# EAGLE library part SPM_EDRTECH (library edrtech_lib)
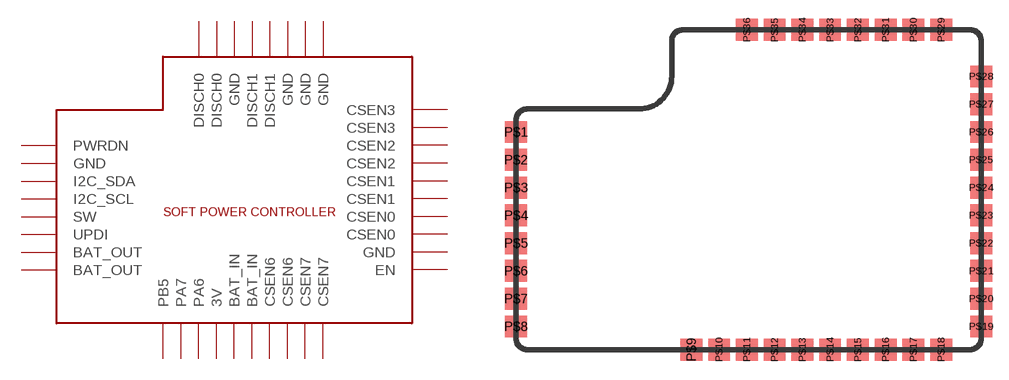
[diagram p32: symbol with the pads of SPM_EDRTECH; footprint SPM_EDRTECH]

Designator prefix -

## SPM_EDRTECH  [SPM_EDRTECH]
P$1  PWRDN
P$2  GND
P$3  I2C_SDA
P$4  I2C_SCL
P$5  SW
P$6  UPDI
P$7  BAT_OUT
P$8  BAT_OUT
P$9  PB5
P$10  PA7
P$11  PA6
P$12  3V
P$13  BAT_IN
P$14  BAT_IN
P$15  CSEN6
P$16  CSEN6
P$17  CSEN7
P$18  CSEN7
P$19  EN
P$20  GND
P$21  CSEN0
P$22  CSEN0
P$23  CSEN1
P$24  CSEN1
P$25  CSEN2
P$26  CSEN2
P$27  CSEN3
P$28  CSEN3
P$29  GND
P$30  GND
P$31  GND
P$32  DISCH1
P$33  DISCH1
P$34  GND
P$35  DISCH0
P$36  DISCH0

## Footprint SPM_EDRTECH (pad centres in mm)
smd 2 x 2: P$1 0,19.89; P$2 0,17.35; P$3 0,14.81; P$4 0,12.27; P$5 0,9.73; P$6 0,7.19; P$7 0,4.65; P$8 0,2.11; P$9 16.03,0; P$10 18.57,0; P$11 21.11,0; P$12 23.65,0; P$13 26.19,0; P$14 28.73,0; P$15 31.27,0; P$16 33.81,0; P$17 36.35,0; P$18 38.89,0; P$19 42.546,2.11; P$20 42.546,4.65; P$21 42.546,7.19; P$22 42.546,9.73; P$23 42.546,12.27; P$24 42.546,14.81; P$25 42.546,17.35; P$26 42.546,19.89; P$27 42.546,22.43; P$28 42.546,24.97; P$29 38.89,29.234; P$30 36.35,29.234; P$31 33.81,29.234; P$32 31.27,29.234; P$33 28.73,29.234; P$34 26.19,29.234; P$35 23.65,29.234; P$36 21.11,29.234